# Altium footprint library TSOP65P210X110-6N.PcbLib: 1 footprints
Each footprint in its own frame and in the unit in brackets; x right, y up, seen from the top. Pads: shape width x height; smd on the part's side, far side on the other; paste and mask are expansions set on the pad; w line width, h text height; cw(c..) or ccw(c..) is an arc to the next point about the centre after c.
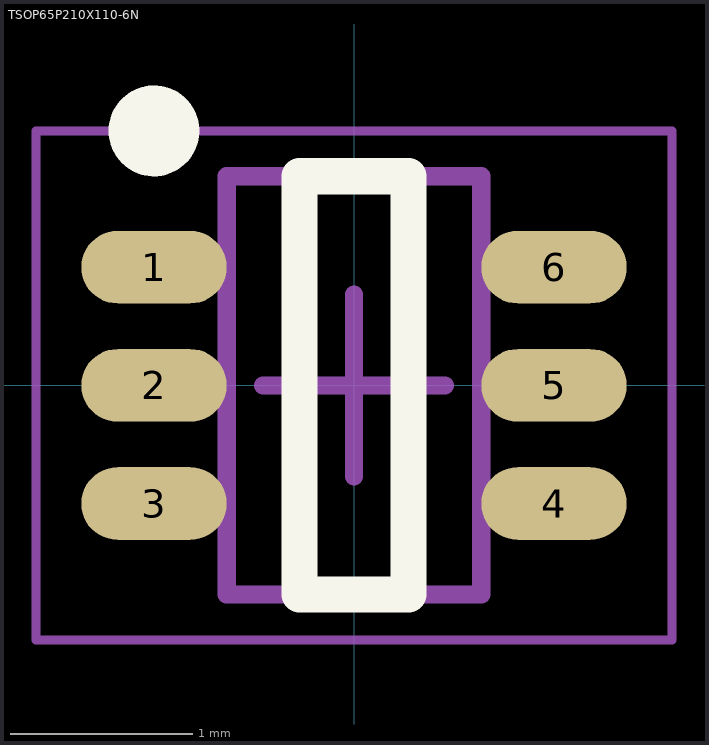
[diagram p0: the footprint, top view; thin cyan lines are the x and y axes]

## TSOP65P210X110-6N [mm] "TSOP, 6-Leads, Body 2.05x1.25mm, Pitch 0.65mm, IPC Medium Density"
height 1.1
pads (6):
  oval 0.8x0.4 smd: 1(-1.1,0.65) 2(-1.1,0) 3(-1.1,-0.65) 4(1.1,-0.65) 5(1.1,0) 6(1.1,0.65)
Top Overlay:
  circle w0.25: c-1.1,1.4 r0.125
  lines w0.2: -0.3,-1.15 0.3,-1.15 0.3,1.15 -0.3,1.15 -0.3,-1.15
Mechanical 13:
  lines w0.1: -0.7,-1.15 0.7,-1.15 0.7,1.15 -0.7,1.15 -0.7,-1.15
Mechanical 15:
  lines w0.05: -1.75,-1.4 1.75,-1.4 1.75,1.4 -1.75,1.4 -1.75,-1.4
  lines w0.1: -0.5,0 0.5,0 ; 0,-0.5 0,0.5
3D body "TSOP65P210X110-6N.step": height 1.14, standoff 0.1, extent -1.108,-1.15 1.108,1.15